# Altium schematic symbol library LL4148.Schlib: 1 symbol
Pins are listed as number, name and electrical type; pins without a type are passive.

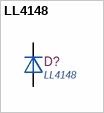
[diagram p0: symbol LL4148]

## LL4148
designator D?
100V 200mA 1V @ 10mA 4ns SOD-80 Switching Diode RoHS; Manufacturer 1: ON Semiconductor / Fairchild; Element Configuration: Single; Peak Non-Repetitive Surge Current: 2A; Peak Reverse Current: 25nA; Power Dissipation: 500mW; Supplier 1: Digi-Key; Manufacturer Part Number 1: LL4148; Stock 1: 905673; Pricing 1: 1=0.10000, 10=0.09100, 100=0.04930, 500=0.03036, 1000=0.02070 (USD); RoHS: Yes; Mount: Surface Mount; Number of Pins: 2; Weight: 0.01lb; Contact Plating: Tin; Min Operating Temperature: -65°C; Max Operating Temperature: 175°C; Packaging: Tape and Reel; Forward Voltage: 1V; Forward Current: 200mA; Reverse Recovery Time: 4ns; Max Repetitive Reverse Voltage (Vrrm): 100V; Max Reverse Voltage (DC): 100V; Average Rectified Current: 200mA; Package Quantity: 2500; Max Forward Surge Current (Ifsm): 2A; Max Surge Current: 2A; Recovery Time: 4ns; Voltage: 100V; Reverse Voltage: 100V; Length: 3.6mm; Height: 1.5mm; Width: 1.5mm; Radiation Hardening: No; Lead Free: Lead Free; REACH SVHC: No SVHC; Supplier Part Number 1: LL4148FSCT-ND; ComponentLink1Description: LCSC - ON Semiconductor LL4148; ComponentLink1URL: https://lcsc.com/product-detail/Switching-Diode_ON-Semicon_LL4148_ON-Semicon-ON-LL4148_C84135.html/?href=jlc-SMT; LCSC Part #: C9808; JLCPCB Part Type: Basic
footprint SOD-89 (Chip Diode, 2-Leads, Body 3,45x1,40mm, IPC Medium Density)
footprint SOD-80
footprint SOD-80 MiniMELF
pins: 1 A, 2 K